# Altium footprint library NHD-3.12-25664UCB2.PcbLib: 1 footprints
Each footprint in its own frame and in the unit in brackets; x right, y up, seen from the top. Pads: shape width x height; smd on the part's side, far side on the other; paste and mask are expansions set on the pad; w line width, h text height; cw(c..) or ccw(c..) is an arc to the next point about the centre after c.
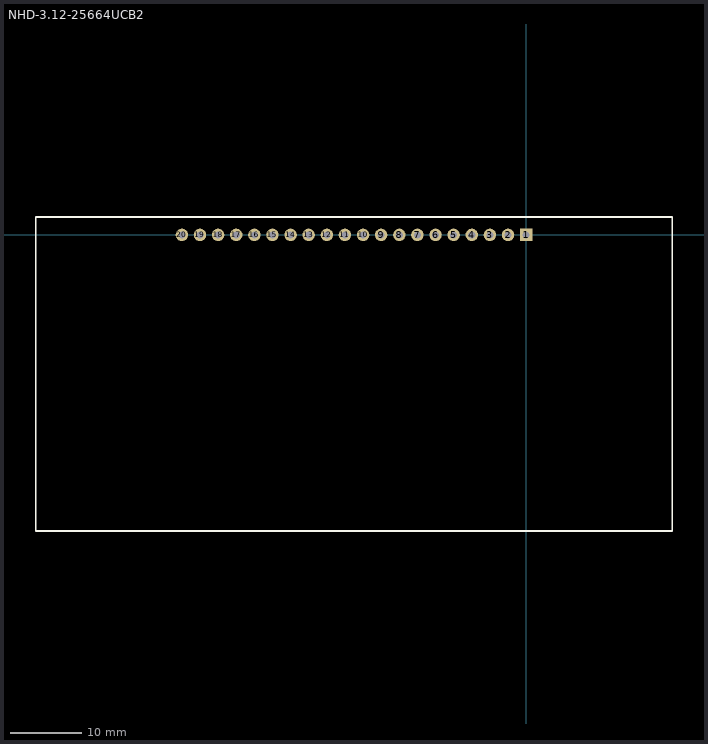
[diagram p0: the footprint, top view; thin cyan lines are the x and y axes]

## NHD-3.12-25664UCB2 [mm] "256x64 mono OLED display module"
height 6
pads (20):
  rect 1.75x1.75 hole 1: 1(0,0)
  round 1.75 hole 1: 2(-2.54,0) 3(-5.08,0) 4(-7.62,0) 5(-10.16,0) 6(-12.7,0) 7(-15.24,0) 8(-17.78,0) 9(-20.32,0) 10(-22.86,0) 11(-25.4,0) 12(-27.94,0) 13(-30.48,0) 14(-33.02,0) 15(-35.56,0) 16(-38.1,0) 17(-40.64,0) 18(-43.18,0) 19(-45.72,0) 20(-48.26,0)
Top Overlay:
  lines w0.254: -68.73,-41.5 20.47,-41.5 20.47,2.5 -68.73,2.5 -68.73,-41.5
3D body: height 6, standoff 0, extent -68.729,-41.499 20.469,2.499